# Altium schematic symbol library SCH - CLOCK - NEXPERIA 74AVC9112DCH.SCHLIB: 1 symbol
Pins are listed as number, name and electrical type; pins without a type are passive.

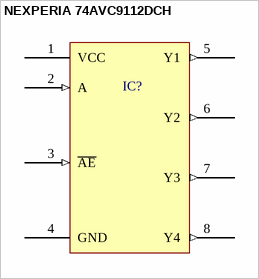
[diagram p0: symbol NEXPERIA 74AVC9112DCH]

## NEXPERIA 74AVC9112DCH
designator IC?
pins: 1 VCC (power), 2 A (in), 3 ~{AE} (in), 4 GND (power), 5 Y1 (out), 6 Y2 (out), 7 Y3 (out), 8 Y4 (out)